# Altium footprint library D SMD.PcbLib: 29 footprints (part 1 of 2)
Each footprint in its own frame and in the unit in brackets; x right, y up, seen from the top. Pads: shape width x height; smd on the part's side, far side on the other; paste and mask are expansions set on the pad; w line width, h text height; cw(c..) or ccw(c..) is an arc to the next point about the centre after c.
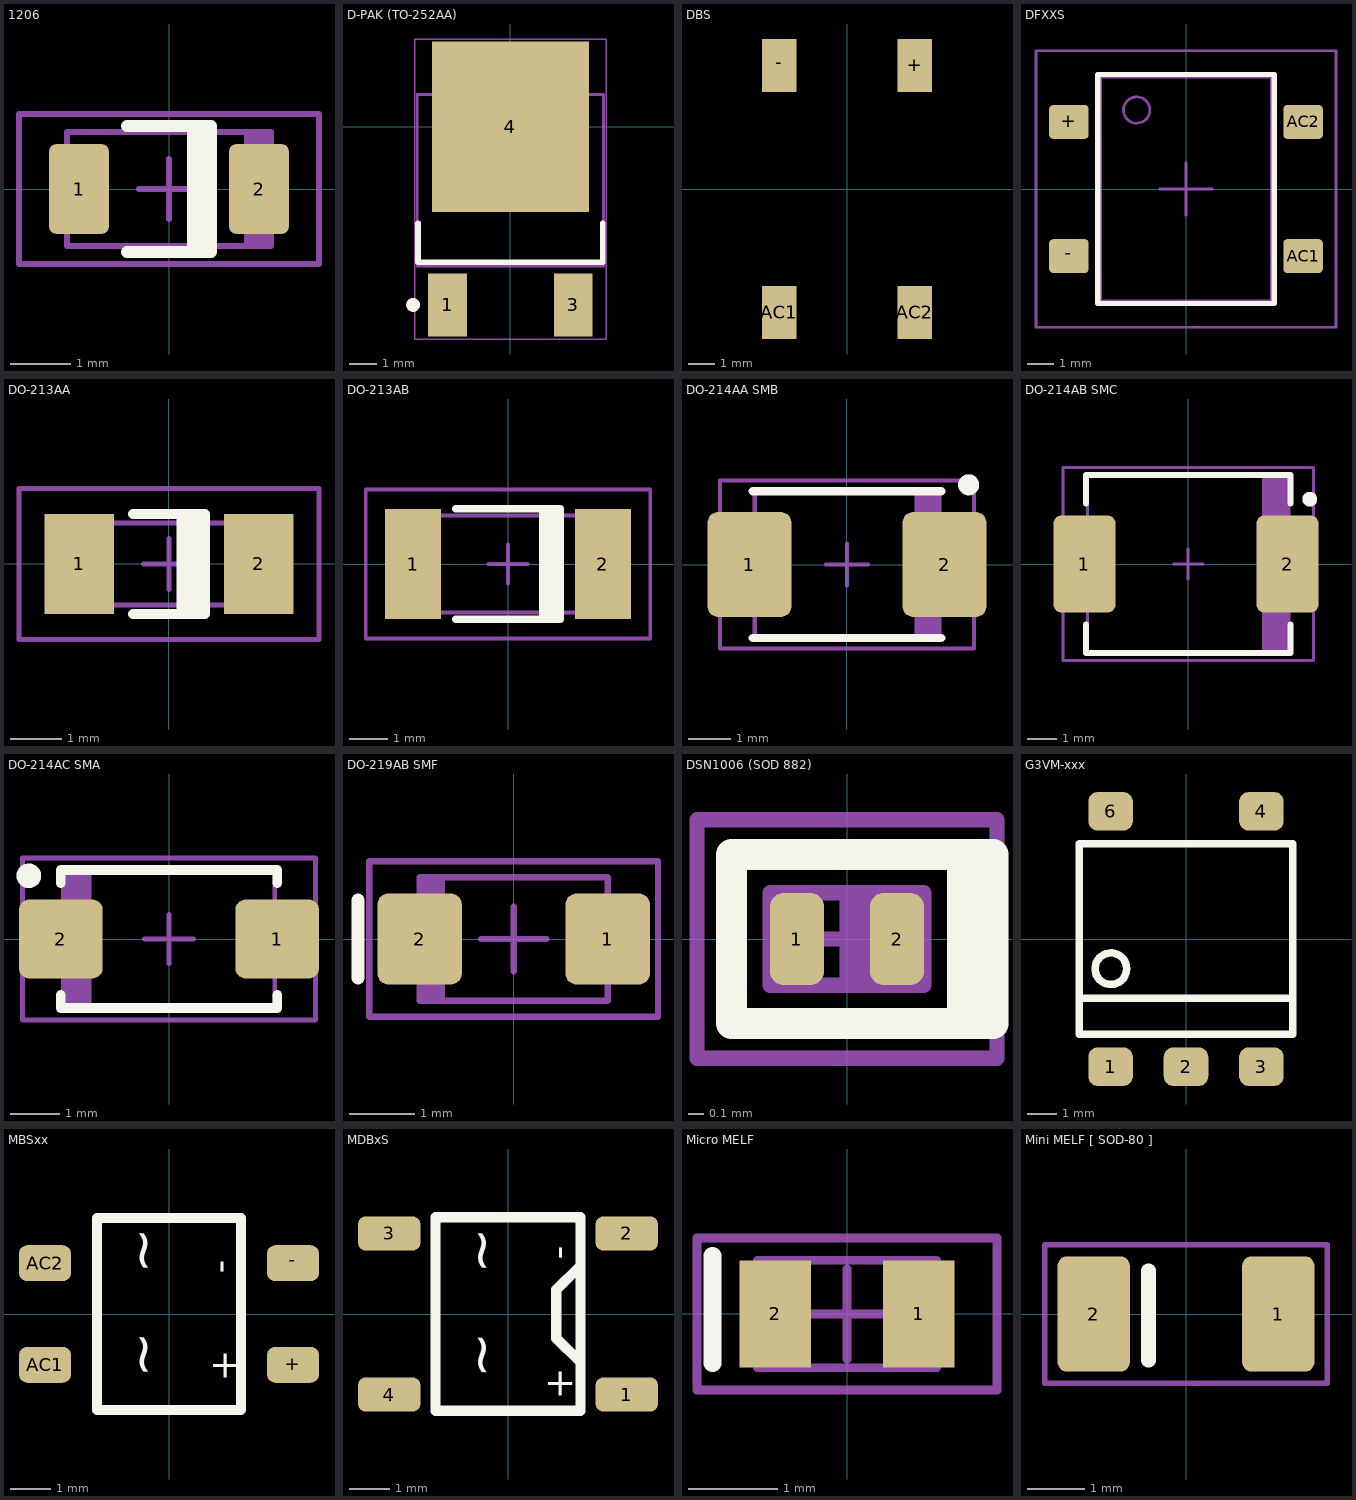
[diagram p0: the footprints below, top view; thin cyan lines are the x and y axes]

## 1206 [mm] "1206"
height 1.16
pads (2):
  rrect25% 1x1.5 smd: 1(-1.5,0) 2(1.5,0)
Top Overlay:
  rectangle: 0.3,-1.05 0.7,1.05
  lines w0.2: -0.7,-1.05 0.7,-1.05 0.7,1.05 -0.7,1.05
Mechanical 13:
  rectangle: 1.25,-0.95 1.7,0.95
  lines w0.1: -1.7,-0.95 1.7,-0.95 1.7,0.95 -1.7,0.95 -1.7,-0.95
Mechanical 15:
  lines w0.1: -0.5,0 0.5,0 ; 0,-0.5 0,0.5 ; -2.5,-1.25 2.5,-1.25 2.5,1.25 -2.5,1.25 -2.5,-1.25
3D body: height 1, standoff 0, extent -1.7,-0.95 1.7,0.95

## D-PAK (TO-252AA) [mm]
pads (3):
  rect 1.397x2.286 smd: 1(-2.28,-6.45) 3(2.28,-6.45)
  rect 5.69x6.18 smd: 4(0,0)
Top Overlay:
  circle w0.25: c-3.528,-6.45 r0.125
  lines w0.2: -3.35,-3.49 -3.35,-4.907 3.35,-4.907 3.35,-3.49
Mechanical 13:
  lines w0.1: -3.375,-5.05 3.375,-5.05 3.375,1.17 -3.375,1.17 -3.375,-5.05
Mechanical 15:
  lines w0.05: -3.475,-7.684 3.475,-7.684 3.475,3.184 -3.475,3.184 -3.475,-7.684
  lines w0.1: -0.5,-2.25 0.5,-2.25 ; 0,-2.75 0,-1.75
3D body: height 2.38, standoff 0, extent -3.375,-6.258 3.375,3.647

## DBS [mm]
pads (4):
  rect 1.3x2 smd: +(2.55,4.65) -(-2.55,4.65) AC1(-2.55,-4.65) AC2(2.55,-4.65)
3D body: height 3.4, standoff 0, extent -4.4,-3.25 4.4,3.25

## DFXXS [mm] "ON Semiconductor Bridge Rectifiers"
height 2.6
pads (4):
  rrect25% 1.5x1.3 smd: +(-4.45,2.55) -(-4.45,-2.55) AC1(4.45,-2.55) AC2(4.45,2.55)
Top Overlay:
  lines w0.2: -3.35,-4.35 -3.35,4.35 3.35,4.35 3.35,-4.35 -3.35,-4.35
Mechanical 13:
  circle w0.1: c-1.875,3 r0.5
  lines w0.1: -3.25,-4.25 -3.25,4.25 3.25,4.25 3.25,-4.25 -3.25,-4.25
Mechanical 15:
  lines w0.1: -1,0 1,0 ; 0,-1 0,1 ; -5.7,-5.25 -5.7,5.25 5.7,5.25 5.7,-5.25 -5.7,-5.25
3D body: height 3.55, standoff -0.02, extent -5.15,-4.255 5.15,4.255

## DO-213AA [mm] "MELF Diode, 2-Leads, Body 3,5x1,6mm"
height 1.6
pads (2):
  rect 1.35x1.95 smd: 1(-1.75,0) 2(1.75,0)
Top Overlay:
  rectangle: 0.15,-0.975 0.7,0.975
  lines w0.2: -0.7,-0.975 0.7,-0.975 0.7,0.975 -0.7,0.975
Mechanical 13:
  rectangle: 1.279,-0.8 1.75,0.8
  lines w0.1: -1.75,-0.8 1.75,-0.8 1.75,0.8 -1.75,0.8 -1.75,-0.8
Mechanical 15:
  lines w0.1: -0.5,0 0.5,0 ; 0,-0.5 0,0.5 ; -2.925,-1.475 2.925,-1.475 2.925,1.475 -2.925,1.475 -2.925,-1.475
3D body: height 1.6, standoff 0, extent -1.75,-0.8 1.75,0.8

## DO-213AB [mm] "MELF Diode, 2-Leads, Body 5,0x2,5mm"
height 2.5
pads (2):
  rect 1.45x2.85 smd: 1(-2.45,0) 2(2.45,0)
Top Overlay:
  rectangle: 0.8,-1.425 1.35,1.425
  lines w0.2: -1.35,-1.425 1.35,-1.425 1.35,1.425 -1.35,1.425
Mechanical 13:
  rectangle: 1.827,-1.25 2.5,1.25
  lines w0.1: -2.5,-1.25 -2.5,1.25 2.5,1.25 2.5,-1.25 -2.5,-1.25
Mechanical 15:
  lines w0.1: -0.5,0 0.5,0 ; 0,-0.5 0,0.5 ; -3.675,-1.925 -3.675,1.925 3.675,1.925 3.675,-1.925 -3.675,-1.925
3D body: height 2.5, standoff 0, extent -2.5,-1.25 2.5,1.25

## DO-214AA SMB [mm] "Molded Diode, 2-Leads, Body 4,4x3,5mm"
height 2.2
pads (2):
  rrect25% 2x2.5 smd: 1(-2.325,0) 2(2.325,0)
Top Overlay:
  circle w0.25: c2.9,1.9 r0.125
  lines w0.2: -2.25,-1.75 2.25,-1.75 ; -2.25,1.75 2.25,1.75
Mechanical 13:
  rectangle: 1.608,-1.75 2.2,1.75
  lines w0.1: -2.2,-1.75 2.2,-1.75 2.2,1.75 -2.2,1.75 -2.2,-1.75
Mechanical 15:
  lines w0.1: -0.5,0 0.5,0 ; 0,-0.5 0,0.5 ; -3.025,-2 3.025,-2 3.025,2 -3.025,2 -3.025,-2
3D body: height 2.3, standoff 0, extent -2.7,-1.825 2.7,1.775

## DO-214AB SMC [mm] "Molded Diode, 2-Leads, Body 6,8x5,9mm"
height 2.3
pads (2):
  rrect25% 2.1x3.27 smd: 1(-3.5,0) 2(3.35,0)
Top Overlay:
  circle w0.25: c4.1,2.185 r0.125
  lines w0.2: -3.45,-2.035 -3.45,-3 3.45,-3 3.45,-2.035 ; -3.45,2.035 -3.45,3 3.45,3 3.45,2.035
Mechanical 13:
  rectangle: 2.485,-2.95 3.4,2.95
  lines w0.1: -3.4,-2.95 -3.4,2.95 3.4,2.95 3.4,-2.95 -3.4,-2.95
Mechanical 15:
  lines w0.1: -0.5,0 0.5,0 ; 0,-0.5 0,0.5 ; -4.225,-3.25 -4.225,3.25 4.225,3.25 4.225,-3.25 -4.225,-3.25
3D body: height 2.3, standoff 0, extent -3.975,-2.95 3.975,2.95

## DO-214AC SMA [mm] "Molded Diode, 2-Leads, Body 4,3x2,7mm"
height 2.2
pads (2):
  rrect25% 1.7x1.6 smd: 1(2.2,0) 2(-2.2,0)
Top Overlay:
  circle w0.25: c-2.85,1.285 r0.125
  lines w0.2: -2.2,-1.135 -2.2,-1.4 2.2,-1.4 2.2,-1.135 ; -2.2,1.135 -2.2,1.4 2.2,1.4 2.2,1.135
Mechanical 13:
  rectangle: -2.15,-1.35 -1.572,1.35
  lines w0.1: -2.15,-1.35 2.15,-1.35 2.15,1.35 -2.15,1.35 -2.15,-1.35
Mechanical 15:
  lines w0.1: -0.5,0 0.5,0 ; 0,-0.5 0,0.5 ; -2.975,-1.65 2.975,-1.65 2.975,1.65 -2.975,1.65 -2.975,-1.65
3D body: height 2.4, standoff 0, extent -2.6,-1.3 2.6,1.3

## DO-219AB SMF [mm] "Molded Capacitor, 2-Leads, Body 2,8x1,8mm, IPC Medium Density"
height 1.43
pads (2):
  rrect25% 1.3x1.4 smd: 1(1.45,0) 2(-1.45,0)
Top Overlay:
  lines w0.2: -2.4,-0.6 -2.4,0.6
Mechanical 13:
  rectangle: -1.45,-0.95 -1.06,0.95
  lines w0.1: -1.45,-0.95 -1.45,0.95 1.45,0.95 1.45,-0.95 -1.45,-0.95
Mechanical 15:
  lines w0.1: -0.5,0 0.5,0 ; 0,-0.5 0,0.5 ; -2.225,-1.2 -2.225,1.2 2.225,1.2 2.225,-1.2 -2.225,-1.2
3D body: height 1.25, standoff 0, extent -1.95,-0.95 1.95,0.95

## DSN1006 (SOD 882) [mm] "1x0.6mm, leadless pads, CLP1006-2L; DSN1006-2; SOD 882; SOD 993"
height 0.4
pads (2):
  rrect50% 0.35x0.6 smd paste-0.05: 1(-0.325,0) 2(0.325,0)
Top Overlay:
  lines w0.2: 0.725,-0.55 0.95,-0.55 0.95,0.55 0.75,0.55 ; 0.75,0.55 -0.75,0.55 -0.75,-0.55 0.75,-0.55 0.75,0.55
Mechanical 13:
  rectangle: 0.05,-0.3 0.5,0.3
  lines w0.1: -0.5,-0.3 -0.5,0.3 0.5,0.3 0.5,-0.3 -0.5,-0.3
Mechanical 15:
  lines w0.1: -0.3,0 0.3,0 ; 0,-0.3 0,0.3 ; -0.975,-0.775 -0.975,0.775 0.975,0.775 0.975,-0.775 -0.975,-0.775
3D body: height 0.4, standoff 0, extent -0.5,-0.3 0.5,0.3

## G3VM-xxx [mm] "G3VM-xxx"
height 3.65
pads (5):
  rrect50% 1.5x1.3 smd: 1(-2.54,-4.3) 2(0,-4.3) 3(2.54,-4.3) 4(2.54,4.3) 6(-2.54,4.3)
Top Overlay:
  circle w0.254: c-2.531,-1 r0.531
  lines w0.254: -3.55,-2 3.55,-2 ; -3.6,-3.2 -3.6,3.2 3.6,3.2 3.6,-3.2 -3.6,-3.2
3D body: height 3.7, standoff 0, extent -3.56,-4.8 3.56,4.8

## MBSxx [mm] "MBSxx"
height 2.9
pads (4):
  rrect45% 1.3x0.9 smd: +(3.1,-1.27) -(3.1,1.27) AC1(-3.1,-1.27) AC2(-3.1,1.27)
Top Overlay:
  lines w0.254: -1.8,-2.4 1.8,-2.4 1.8,2.4 -1.8,2.4 -1.8,-2.4
  text "-" at 1.6,1 h0.7
  text "+" at 1,-1.6 h0.7
  text "~" at -0.2,-1.6 h1
  text "~" at -0.2,1 h1
3D body: height 3, standoff 0, extent -3.5,-2.4 3.5,2.4

## MDBxS [mm] "MDBxS"
height 1.6
pads (4):
  rrect45% 1.55x0.85 smd: 1(2.95,-2) 2(2.95,2) 3(-2.95,2) 4(-2.95,-2)
Top Overlay:
  lines w0.25: 1.8,-1.2 1.8,1.2
  lines w0.254: -1.8,-2.4 -1.8,2.4 1.8,2.4 1.8,1.2 1.2,0.6 1.2,-0.6 1.8,-1.2 1.8,-2.4 -1.8,-2.4
  text "~" at -0.2,1 h1
  text "~" at -0.2,-1.6 h1
  text "+" at 0.9,-2.025 h0.7
  text "-" at 1.575,1.35 h0.7
3D body: height 1.6, standoff 0, extent -2.275,-2.575 2.275,2.575

## Micro MELF [mm] "MELF Diode, 2-Leads, Body 1,9x1,2mm, IPC Medium Density"
height 1.2
pads (2):
  rect 0.8x1.2 smd: 1(0.8,0) 2(-0.8,0)
Top Overlay:
  lines w0.2: -1.5,-0.55 -1.5,0.65
Mechanical 13:
  rectangle: -1,-0.6 -0.731,0.6
  lines w0.1: -1,-0.6 -1,0.6 1,0.6 1,-0.6 -1,-0.6
Mechanical 15:
  lines w0.1: -0.5,0 0.5,0 ; 0,-0.5 0,0.5 ; -1.675,-0.85 -1.675,0.85 1.675,0.85 1.675,-0.85 -1.675,-0.85
3D body: height 1.2, standoff 0, extent -1,-0.6 1,0.6

## Mini MELF [ SOD-80 ] [mm] "Mini MELF [ SOD-80 ]"
height 1.6
pads (2):
  rrect25% 1.25x2 smd: 1(1.6,0) 2(-1.6,0)
Top Overlay:
  lines w0.254: -0.65,-0.8 -0.65,0.75
Mechanical 15:
  lines w0.1: -2.45,-1.2 2.45,-1.2 2.45,1.2 -2.45,1.2 -2.45,-1.2
3D body: height 1.52, standoff -0.02, extent -1.703,-0.77 1.65,0.77